# EAGLE library part LM2904M (library OP_AMP)
The LM2904,LM358/LM358A, LM258/LM258A. consist of two independent, high gain, internally frequency compensated operational amplifiers which were designed specifically to operate from a single power supply over a wide range of voltage. Operation from split power supplies is also possible and the low power supply current drain is independent of the magnitude of the power supply voltage. Application areas include transducer amplifier, DC gain blocks and all the conventional OP-AMP circuits which now can be easily implemented in single power supply systems.
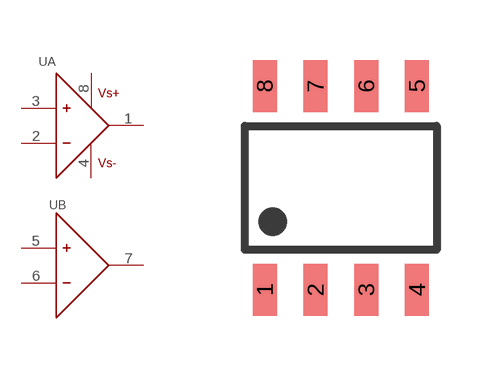
[diagram p0: symbol with the pads of SO-8; footprint SO-8]

Designator prefix U; gates A=OP_AMP_PWR B=OP_AMP

## LM2904M/SO-8  [SO-8]
1  A:OUT
2  A:IN-
3  A:IN+
4  A:VS-
5  B:IN+
6  B:IN-
7  B:OUT
8  A:VS+

## Footprint SO-8 (pad centres in mm)
smd 0.6 x 1.3: 1 0,0; 2 1.27,0; 3 2.54,0; 4 3.81,0; 5 3.81,5.1; 6 2.54,5.1; 7 1.27,5.1; 8 0,5.1